# Altium footprint library 2019-06-04_20-11-11.PcbLib: 1 footprints
Each footprint in its own frame and in the unit in brackets; x right, y up, seen from the top. Pads: shape width x height; smd on the part's side, far side on the other; paste and mask are expansions set on the pad; w line width, h text height; cw(c..) or ccw(c..) is an arc to the next point about the centre after c.
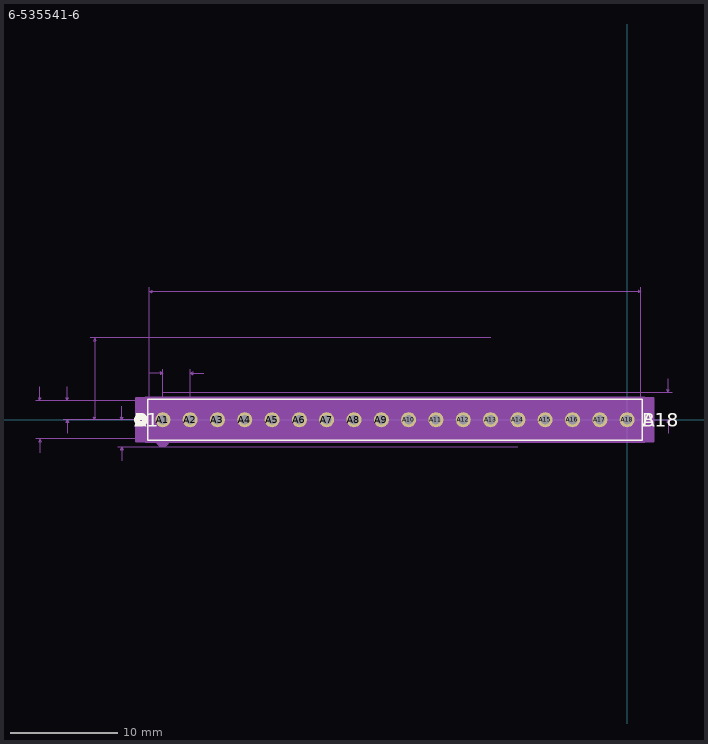
[diagram p0: the footprint, top view; thin cyan lines are the x and y axes]

## 6-535541-6 [mil]
pads (18):
  round 55 hole 35 mask+0: A1(-1700,0) A2(-1600,0) A3(-1500,0) A4(-1400,0) A5(-1300,0) A6(-1200,0) A7(-1100,0) A8(-1000,0) A9(-900,0) A10(-800,0) A11(-700,0) A12(-600,0) A13(-500,0) A14(-400,0) A15(-300,0) A16(-200,0) A17(-100,0) A18(0,0)
Top Overlay:
  circle w20: c-1780,0 r15
  lines w6: -1755,-75 55,-75 55,75 -1755,75 -1755,-75
  text "A1" at -1805,-25 h50
  text "B1" at -1805,-25 h50
  text "A18" at 55,-25 h50
  text "B18" at 55,-25 h50
Bottom Overlay:
  circle w20: c-1780,0 r15
  text "A1" at -1755,-25 h50
  text "B1" at -1755,-25 h50
  text "A18" at 130,-25 h50
  text "B18" at 130,-25 h50
Mechanical 5:
  region: -1765,85 65,85 65,-85 -1765,-85
Mechanical 7:
  lines w1: -2165,-70 -1750,-70 ; -2165,70 -1750,70 ; -2150,-120 -2150,-70 ; -2150,120 -2150,70 ; -2065,0 -850,0 ; -2065,70 -1750,70 ; -2050,-50 -2050,0 ; -2050,120 -2050,70 ; -1965,0 -850,0 ; -1965,300 -500,300 ; -1865,-100 -400,-100 ; -1865,0 -850,0 ; -1850,-150 -1850,-100 ; -1850,50 -1850,0 ; -1750,170 -1700,170 ; -1750,485 -1750,70 ; -1700,100 165,100 ; -1700,185 -1700,0 165,0 ; -1600,0 -1600,185 ; -1550,170 -1600,170 ; 50,70 50,485 ; 150,-50 150,0 ; 150,150 150,100 ; -2150,-70 -2155,-80 -2145,-80 -2150,-70 ; -2150,70 -2155,80 -2145,80 -2150,70 ; -2050,0 -2055,-10 -2045,-10 -2050,0 ; -2050,70 -2055,80 -2045,80 -2050,70 ; -1950,0 -1950,300 ; -1950,0 -1955,10 -1945,10 -1950,0 ; -1950,300 -1955,290 -1945,290 -1950,300 ; -1850,-100 -1855,-110 -1845,-110 -1850,-100 ; -1850,0 -1855,10 -1845,10 -1850,0 ; -1750,470 50,470 ; -1750,470 -1740,475 -1740,465 -1750,470 ; -1700,170 -1710,175 -1710,165 -1700,170 ; -1600,170 -1590,175 -1590,165 -1600,170 ; 50,470 40,475 40,465 50,470 ; 150,0 145,-10 155,-10 150,0 ; 150,100 145,110 155,110 150,100
  text "Default Padstyle: EX55Y55D35P" at -1212.5,-220 h50
  text "First Mounting Padstyle: EX80Y80D50P" at -1300,-295 h50
  text "Second Mounting Padstyle: EX70Y70D70P" at -1312.5,-370 h50
  text "Third Mounting Padstyle: EX70Y70D70P" at -1300,-445 h50
  text "Left Mounting Padstyle: EX60Y60D30P" at -1287.5,-520 h50
  text "Right Mounting Padstyle: EX60Y60D30P" at -1300,-595 h50
  text "Alt 1 Padstyle: OX60Y90D30P" at -1187.5,-670 h50
  text "Alt 2 Padstyle: OX90Y60D30P" at -1187.5,-745 h50
  text "0.1in/2.54mm" at -1400,190 h25
  text "1.8in/45.72mm" at -931.25,490 h25
  text "0.1in/2.54mm" at 170,-12.5 h25
  text "-0.1in/-2.54mm" at -2045,-62.5 h25
  text "0.3in/7.62mm" at -2120,137.5 h25
  text "0.07in/1.778mm" at -2245,22.5 h25
  text "0.14in/3.556mm" at -2345,22.5 h25
Mechanical 13:
  circle w20: c-1700,-75 r15
  lines w1: -1750,-70 50,-70 50,70 -1750,70 -1750,-70
  text "A1" at -1805,-25 h50
  text "B1" at -1805,-25 h50
  text "A18" at 55,-25 h50
  text "B18" at 55,-25 h50
Mechanical 15:
  region: 98,80 -1798,80 -1798,-80 98,-80
  region: 50,70 -1750,70 -1750,-70 50,-70
  lines w6: -1798,-80 -1798,80 98,80 98,-80 -1798,-80
3D body: height 10, standoff 0, extent 0,0 10,10